# Altium schematic symbol library cp2102.SchLib: 2 symbols
Pins are listed as number, name and electrical type; pins without a type are passive.

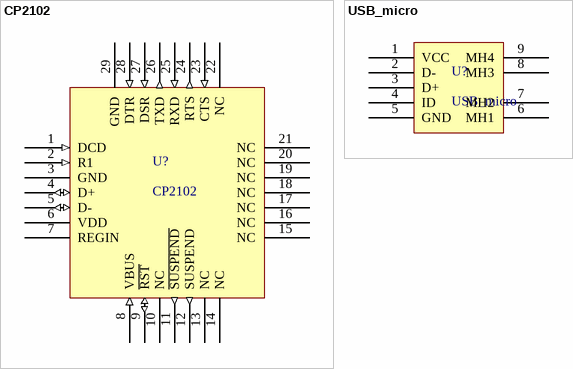
[diagram p0: symbols CP2102 to USB_micro]

## CP2102
designator U?
USB Interface IC USB to UART Bridge QFN28
pins: 1 DCD (in), 2 R1 (in), 3 GND (power), 4 D+ (io), 5 D- (io), 6 VDD, 7 REGIN, 8 VBUS (in), 9 ~{RST} (io), 10 NC (power), 11 ~{SUSPEND} (out), 12 SUSPEND (out), 13 NC, 14 NC, 15 NC, 16 NC, 17 NC, 18 NC, 19 NC, 20 NC, 21 NC, 22 NC, 23 CTS (in), 24 RTS (out), 25 RXD (in), 26 TXD (out), 27 DSR (in), 28 DTR (in), 29 GND (power)

## USB_micro
designator U?
pins: 1 VCC (power), 2 D-, 3 D+, 4 ID, 5 GND (power), 6 MH1, 7 MH2, 8 MH3, 9 MH4